# EAGLE library part TD62783 (library CabInst)
8ch Darlington Sink Driver Source: http://akizukidenshi.com/download/TD62083AP.pdf
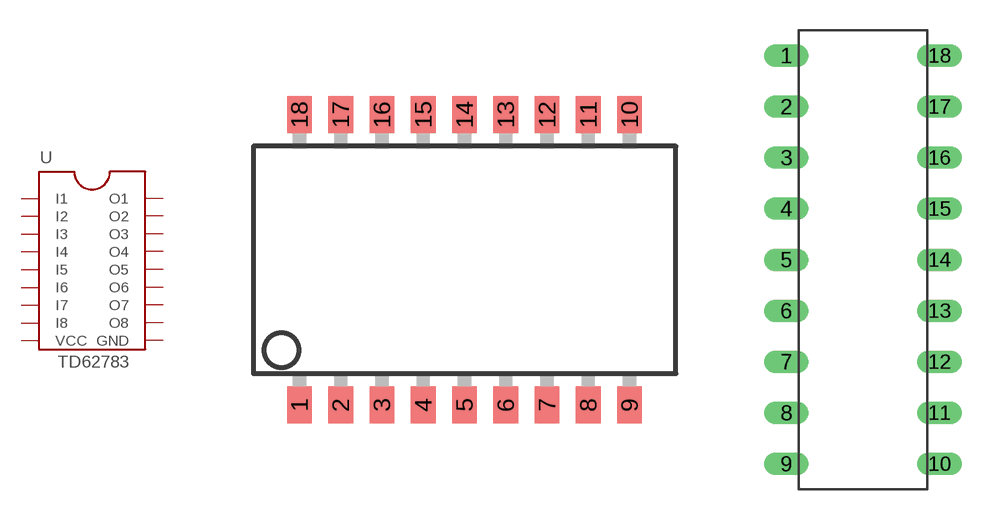
[diagram p5: symbol with the pads of SO18; footprints SO18, DIP18]

Designator prefix U

## TD62783  [SO18]
1  I1  pas
2  I2  pas
3  I3  pas
4  I4  pas
5  I5  pas
6  I6  pas
7  I7  pas
8  I8  pas
9  VCC  pas
10  GND  pas
11  O8  pas
12  O7  pas
13  O6  pas
14  O5  pas
15  O4  pas
16  O3  pas
17  O2  pas
18  O1  pas

## TD62783DIP18  [DIP18]
Pads as for SO18

## Footprint SO18 (pad centres in mm)
smd 0.762 x 1.143: 1 -5.08,-3.835; 2 -3.81,-3.835; 3 -2.54,-3.835; 4 -1.27,-3.835; 5 0,-3.835; 6 1.27,-3.835; 7 2.54,-3.835; 8 3.81,-3.835; 9 5.08,-3.835; 10 5.08,5.105; 11 3.81,5.105; 12 2.54,5.105; 13 1.27,5.105; 14 0,5.105; 15 -1.27,5.105; 16 -2.54,5.105; 17 -3.81,5.105; 18 -5.08,5.105

## Footprint DIP18 (pad centres in mm)
drill 0.6 long: 1 -3.81,0; 2 -3.81,-2.54; 3 -3.81,-5.08; 4 -3.81,-7.62; 5 -3.81,-10.16; 6 -3.81,-12.7; 7 -3.81,-15.24; 8 -3.81,-17.78; 9 -3.81,-20.32; 10 3.81,-20.32; 11 3.81,-17.78; 12 3.81,-15.24; 13 3.81,-12.7; 14 3.81,-10.16; 15 3.81,-7.62; 16 3.81,-5.08; 17 3.81,-2.54; 18 3.81,0